# Altium footprint library PCB - LEADED - SOT - TI SOT-553 DRL.PCBLIB: 1 footprints
Each footprint in its own frame and in the unit in brackets; x right, y up, seen from the top. Pads: shape width x height; smd on the part's side, far side on the other; paste and mask are expansions set on the pad; w line width, h text height; cw(c..) or ccw(c..) is an arc to the next point about the centre after c.
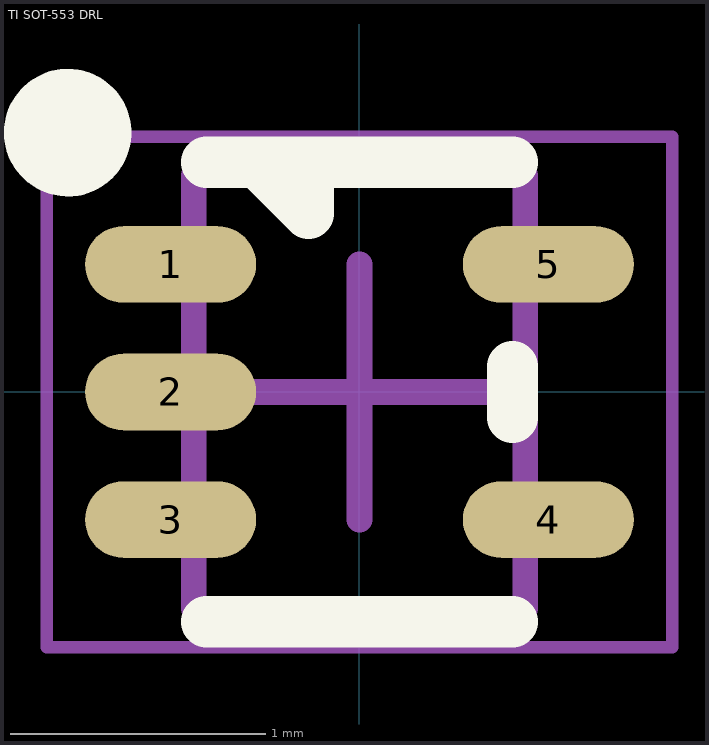
[diagram p0: the footprint, top view; thin cyan lines are the x and y axes]

## TI SOT-553 DRL [mm] "SOT553, 5-Leads, Body 1.60x1.60mm, Pitch 0.50mm"
height 0.6
pads (5):
  oval 0.67x0.3 smd: 1(-0.74,0.5) 2(-0.74,0) 3(-0.74,-0.5) 4(0.74,-0.5) 5(0.74,0.5)
Top Overlay:
  circle w0.25: c-1.143,1.016 r0.125
  lines w0.2: -0.6,-0.9 0.6,-0.9 ; -0.6,0.9 0.6,0.9 ; -0.4,0.9 -0.2,0.7 -0.2,0.9 ; 0.6,-0.1 0.6,0.1
Mechanical 13:
  lines w0.1: -0.65,-0.85 -0.65,0.85 0.65,0.85 0.65,-0.85 -0.65,-0.85
Mechanical 15:
  lines w0.05: -1.225,-1 -1.225,1 1.225,1 1.225,-1 -1.225,-1
  lines w0.1: -0.5,0 0.5,0 ; 0,-0.5 0,0.5
3D body "TI SOT-553 DRL.step": height 0.6, standoff 0, extent -0.8,-0.848 0.8,0.848